# Altium footprint library LED_SMD.PcbLib: 82 footprints (part 4 of 6)
Each footprint in its own frame and in the unit in brackets; x right, y up, seen from the top. Pads: shape width x height; smd on the part's side, far side on the other; paste and mask are expansions set on the pad; w line width, h text height; cw(c..) or ccw(c..) is an arc to the next point about the centre after c.
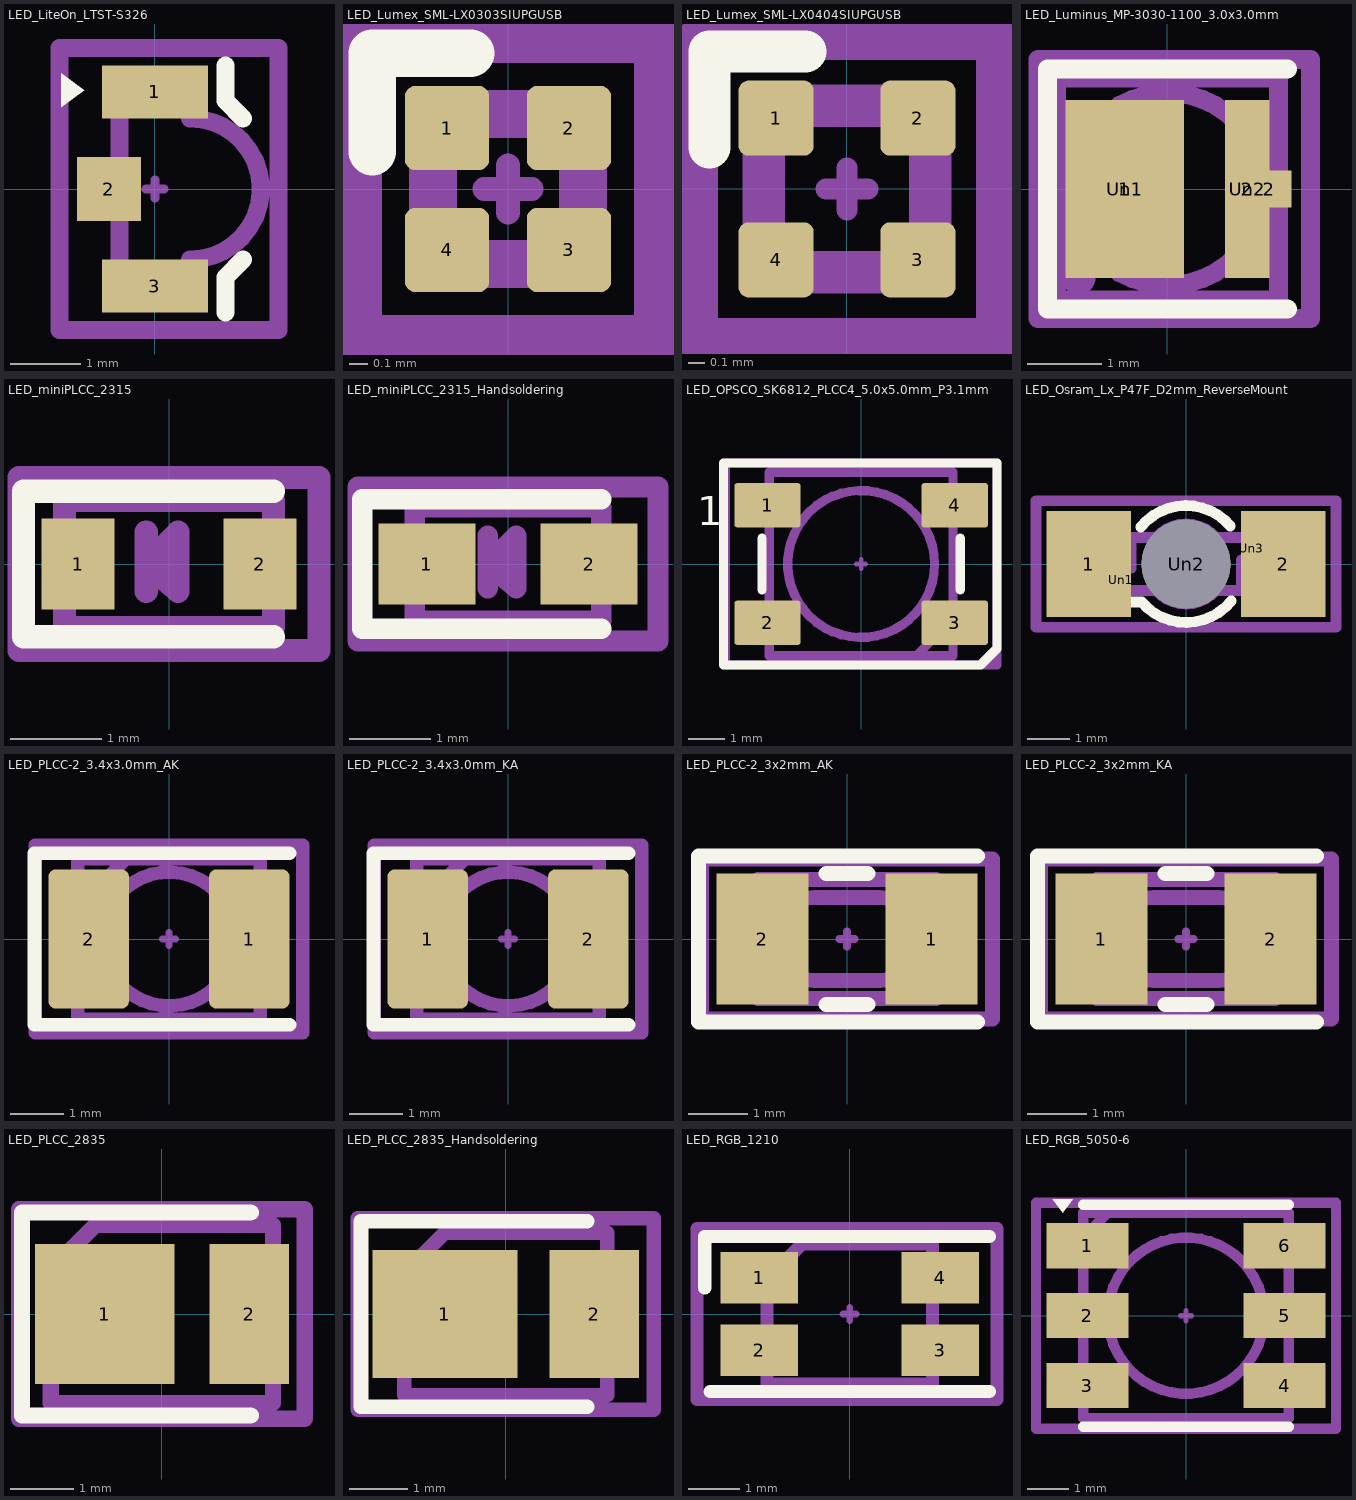
[diagram p3: the footprints below, top view; thin cyan lines are the x and y axes]

## LED_LiteOn_LTST-S326 [mm] "LED_LiteOn_LTST-S326"
pads (3):
  rect 1.5x0.75 smd: 1(0,1.375) 3(0,-1.375)
  rect 0.9x0.9 smd: 2(-0.65,0)
F.SilkS:
  region: -1,1.4 -1.33,1.16 -1.33,1.64
  lines w0.254: 1,-1.75 1,-1.25 1.25,-1 ; 1,1.75 1,1.25 1.25,1
Top Component Center:
  lines w0.127: -0.127,0 0.127,0 ; 0,-0.127 0,0.127
Top Assembly:
  lines w0.254: -0.5,-1.5 0.5,-1.5 0.5,-1 ccw(c0.5,0) 0.5,1 0.5,1.5 -0.5,1.5 -0.5,-1.5
Top Courtyard:
  lines w0.254: -1.35,-2 1.75,-2 1.75,2 -1.35,2 -1.35,-2
Top Designator:
  text ".Designator" at 0.226,-2.253 h1

## LED_Lumex_SML-LX0303SIUPGUSB [mm] "LED_Lumex_SML-LX0303SIUPGUSB"
pads (4):
  rrect25% 0.45x0.45 smd: 1(-0.325,0.325) 2(0.325,0.325) 3(0.325,-0.325) 4(-0.325,-0.325)
F.SilkS:
  lines w0.254: -0.725,0.2 -0.725,0.725 -0.2,0.725
Top Component Center:
  lines w0.127: -0.127,0 0.127,0 ; 0,-0.127 0,0.127
Top Assembly:
  lines w0.254: -0.4,-0.4 -0.4,0.2 -0.2,0.4 0.4,0.4 0.4,-0.4 -0.4,-0.4
Top Courtyard:
  lines w0.254: -0.8,-0.8 -0.8,0.8 0.8,0.8 0.8,-0.8 -0.8,-0.8
Top Designator:
  text ".Designator" at -1.127,-0.113 h0.5

## LED_Lumex_SML-LX0404SIUPGUSB [mm] "LED_Lumex_SML-LX0404SIUPGUSB"
pads (4):
  rrect25% 0.45x0.45 smd: 1(-0.425,0.425) 2(0.425,0.425) 3(0.425,-0.425) 4(-0.425,-0.425)
F.SilkS:
  lines w0.254: -0.825,0.25 -0.825,0.825 -0.25,0.825
Top Component Center:
  lines w0.127: -0.127,0 0.127,0 ; 0,-0.127 0,0.127
Top Assembly:
  lines w0.254: -0.5,-0.5 0.5,-0.5 0.5,0.5 -0.25,0.5 -0.5,0.25 -0.5,-0.5
Top Courtyard:
  lines w0.254: -0.9,-0.9 0.9,-0.9 0.9,0.9 -0.9,0.9 -0.9,-0.9
Top Designator:
  text ".Designator" at -1.127,-0.113 h0.5

## LED_Luminus_MP-3030-1100_3.0x3.0mm [mm] "LED_Luminus_MP-3030-1100_3.0x3.0mm"
pads (5):
  rect 1.6x2.4 smd: 1(-0.575,0)
  rect 0.6x2.4 smd: 2(1.075,0)
  rect 0.6x0.5 smd: 2(1.375,0)
  rect 1.3x1.9 on Top Paste: Un1(-0.575,0)
  rect 0.4x1.9 on Top Paste: Un2(1.075,0)
F.SilkS:
  lines w0.254: 1.62,-1.62 -1.62,-1.62 -1.62,1.62 1.62,1.62
Top Component Center:
  lines w0.127: -0.127,0 0.127,0 ; 0,-0.127 0,0.127
Top Assembly:
  circle w0.254: c0,0 r1.3
  circle w0.254: c-1.2,-1.2 r0.1
  lines w0.254: -1.5,-1.5 1.5,-1.5 1.5,1.5 -1.5,1.5 -1.5,-1.5
Top Courtyard:
  lines w0.254: -1.75,-1.75 1.93,-1.75 1.93,1.75 -1.75,1.75 -1.75,-1.75
Top Designator:
  text ".Designator" at -2.253,-0.226 h1

## LED_miniPLCC_2315 [mm] "LED_miniPLCC_2315"
pads (2):
  rect 0.8x1 smd: 1(-1,0) 2(1,0)
F.SilkS:
  lines w0.254: 1.15,-0.8 -1.6,-0.8 -1.6,0.8 1.15,0.8
Top Component Center:
  lines w0.127: -0.127,0 0.127,0 ; 0,-0.127 0,0.127
Top Assembly:
  lines w0.254: -0.25,-0.3 -0.25,0.35 ; -1.15,-0.7 -1.15,0.7 1.15,0.7 1.15,-0.7 -1.15,-0.7 ; -0.25,0 0.1,-0.3 0.1,0.35 -0.25,0
Top Courtyard:
  lines w0.254: -1.65,-0.95 -1.65,0.95 1.65,0.95 1.65,-0.95 -1.65,-0.95
Top Designator:
  text ".Designator" at -1.69,-0.17 h0.75

## LED_miniPLCC_2315_Handsoldering [mm] "LED_miniPLCC_2315_Handsoldering"
pads (2):
  rect 1.2x1 smd: 1(-1,0) 2(1,0)
F.SilkS:
  lines w0.254: 1.15,-0.8 -1.8,-0.8 -1.8,0.8 1.15,0.8
Top Component Center:
  lines w0.127: -0.127,0 0.127,0 ; 0,-0.127 0,0.127
Top Assembly:
  lines w0.254: -0.25,-0.3 -0.25,0.35 ; -1.15,-0.7 1.15,-0.7 1.15,0.7 -1.15,0.7 -1.15,-0.7 ; -0.25,0 0.1,0.35 0.1,-0.3 -0.25,0
Top Courtyard:
  lines w0.254: -1.85,-0.95 1.85,-0.95 1.85,0.95 -1.85,0.95 -1.85,-0.95
Top Designator:
  text ".Designator" at -1.69,-0.17 h0.75

## LED_OPSCO_SK6812_PLCC4_5.0x5.0mm_P3.1mm [mm] "LED_OPSCO_SK6812_PLCC4_5.0x5.0mm_P3.1mm"
pads (4):
  rrect10% 1.8x1.2 smd: 1(-2.55,1.6) 2(-2.55,-1.6) 3(2.55,-1.6) 4(2.55,1.6)
F.SilkS:
  lines w0.254: -2.7,-0.7 -2.7,0.7 ; 2.7,-0.7 2.7,0.7 ; -3.75,-2.75 -3.75,2.75 3.7,2.75 3.7,-2.3 3.25,-2.75 -3.75,-2.75
  text "1" at -4.47,1.05 h0.8
Top Component Center:
  lines w0.127: -0.127,0 0.127,0 ; 0,-0.127 0,0.127
Top Assembly:
  circle w0.254: c0,0 r2
  lines w0.254: 1.5,-2.5 2.5,-1.5 ; -2.5,-2.5 -2.5,2.5 2.5,2.5 2.5,-2.5 -2.5,-2.5
Top Courtyard:
  lines w0.254: -3.7,-2.75 -3.7,2.75 3.7,2.75 3.7,-2.75 -3.7,-2.75
Top Designator:
  text ".Designator" at -3.38,-0.339 h1.5

## LED_Osram_Lx_P47F_D2mm_ReverseMount [mm] "LED_Osram_Lx_P47F_D2mm_ReverseMount"
pads (5):
  rect 2x2.5 smd: 1(-2.3,0) 2(2.3,0)
  rect 0.5x0.7 on Top Solder: Un1(-1.55,-0.375) Un3(1.55,0.375)
  round 2.1 hole 2.1: Un2(0,0)
F.SilkS:
  lines w0.254: -2,-0.9 -1.05,-0.9 ccw(c0,0) 1.069,-0.878 ; -1.069,0.878 cw(c0,0) 1.05,0.9
Top Component Center:
  lines w0.127: -0.127,0 0.127,0 ; 0,-0.127 0,0.127
Top Assembly:
  lines w0.254: -0.715,0.625 -1.3,0.625 -1.3,-0.1 -1.5,-0.1 -1.7,-0.3 -1.7,-0.625 -0.715,-0.625 ccw(c0,0) 0.714,-0.626 ; -0.714,0.626 cw(c0,0) 0.715,0.625 1.705,0.625 1.705,0.095 1.315,0.095 1.315,-0.625 0.715,-0.625
Top Courtyard:
  lines w0.254: -3.55,-1.5 -3.55,1.5 3.55,1.5 3.55,-1.5 -3.55,-1.5
Top Designator:
  text ".Designator" at -2.253,-0.226 h1

## LED_PLCC-2_3.4x3.0mm_AK [mm] "LED_PLCC-2_3.4x3.0mm_AK"
pads (2):
  rrect17% 1.5x2.6 smd: 1(1.5,0) 2(-1.5,0)
F.SilkS:
  lines w0.254: 2.25,-1.6 -2.51,-1.6 -2.51,1.6 2.25,1.6
Top Component Center:
  lines w0.127: -0.127,0 0.127,0 ; 0,-0.127 0,0.127
Top Assembly:
  circle w0.254: c0,0 r1.25
  lines w0.254: -1.7,0.6 -0.8,1.5 ; -1.7,-1.5 1.7,-1.5 1.7,1.5 -1.7,1.5 -1.7,-1.5
Top Courtyard:
  lines w0.254: -2.5,-1.75 2.5,-1.75 2.5,1.75 -2.5,1.75 -2.5,-1.75
Top Designator:
  text ".Designator" at -2.253,-0.226 h1

## LED_PLCC-2_3.4x3.0mm_KA [mm] "LED_PLCC-2_3.4x3.0mm_KA"
pads (2):
  rrect17% 1.5x2.6 smd: 1(-1.5,0) 2(1.5,0)
F.SilkS:
  lines w0.254: 2.25,-1.6 -2.51,-1.6 -2.51,1.6 2.25,1.6
Top Component Center:
  lines w0.127: -0.127,0 0.127,0 ; 0,-0.127 0,0.127
Top Assembly:
  circle w0.254: c0,0 r1.25
  lines w0.254: -1.7,0.6 -0.8,1.5 ; -1.7,-1.5 1.7,-1.5 1.7,1.5 -1.7,1.5 -1.7,-1.5
Top Courtyard:
  lines w0.254: -2.5,-1.75 2.5,-1.75 2.5,1.75 -2.5,1.75 -2.5,-1.75
Top Designator:
  text ".Designator" at -3.432,-0.345 h1.52

## LED_PLCC-2_3x2mm_AK [mm] "LED_PLCC-2_3x2mm_AK"
pads (2):
  rect 1.55x2.2 smd: 1(1.425,0) 2(-1.425,0)
F.SilkS:
  lines w0.254: -0.35,-1.1 0.35,-1.1 ; -0.35,1.1 0.35,1.1 ; 2.2,-1.4 -2.5,-1.4 -2.5,1.4 2.2,1.4
Top Component Center:
  lines w0.127: -0.127,0 0.127,0 ; 0,-0.127 0,0.127
Top Assembly:
  lines w0.254: -1.5,0.4 -0.9,1 ; -1.5,-1 1.5,-1 1.5,1 -1.5,1 -1.5,-1 ; -0.55,-0.7 cw(c-0.55,0) -0.55,0.7 0.55,0.7 cw(c0.55,0) 0.55,-0.7 -0.55,-0.7
Top Courtyard:
  lines w0.254: -2.45,-1.35 2.45,-1.35 2.45,1.35 -2.45,1.35 -2.45,-1.35
Top Designator:
  text ".Designator" at -2.253,-0.226 h1

## LED_PLCC-2_3x2mm_KA [mm] "LED_PLCC-2_3x2mm_KA"
pads (2):
  rect 1.55x2.2 smd: 1(-1.425,0) 2(1.425,0)
F.SilkS:
  lines w0.254: -0.35,-1.1 0.35,-1.1 ; -0.35,1.1 0.35,1.1 ; 2.2,-1.4 -2.5,-1.4 -2.5,1.4 2.2,1.4
Top Component Center:
  lines w0.127: -0.127,0 0.127,0 ; 0,-0.127 0,0.127
Top Assembly:
  lines w0.254: -1.5,0.4 -0.9,1 ; -1.5,-1 -1.5,1 1.5,1 1.5,-1 -1.5,-1 ; -0.55,-0.7 cw(c-0.55,0) -0.55,0.7 0.55,0.7 cw(c0.55,0) 0.55,-0.7 -0.55,-0.7
Top Courtyard:
  lines w0.254: -2.45,-1.35 -2.45,1.35 2.45,1.35 2.45,-1.35 -2.45,-1.35
Top Designator:
  text ".Designator" at -2.253,-0.226 h1

## LED_PLCC_2835 [mm] "LED_PLCC_2835"
pads (2):
  rect 2.2x2.2 smd: 1(-0.9,0)
  rect 1.25x2.2 smd: 2(1.375,0)
F.SilkS:
  lines w0.254: 1.4,-1.6 -2.2,-1.6 -2.2,1.6 1.4,1.6
Top Component Center:
  lines w0.127: -0.127,0 0.127,0 ; 0,-0.127 0,0.127
Top Assembly:
  lines w0.254: -1.75,-1.4 1.75,-1.4 1.75,1.4 -1.05,1.4 -1.75,0.7 -1.75,-1.4
Top Courtyard:
  lines w0.254: -2.25,-1.65 2.25,-1.65 2.25,1.65 -2.25,1.65 -2.25,-1.65
Top Designator:
  text ".Designator" at -2.253,-0.226 h1

## LED_PLCC_2835_Handsoldering [mm] "LED_PLCC_2835_Handsoldering"
pads (2):
  rect 2.5x2.2 smd: 1(-1.05,0)
  rect 1.55x2.2 smd: 2(1.525,0)
F.SilkS:
  lines w0.254: 1.4,-1.6 -2.5,-1.6 -2.5,1.6 1.4,1.6
Top Component Center:
  lines w0.127: -0.127,0 0.127,0 ; 0,-0.127 0,0.127
Top Assembly:
  lines w0.254: -1.75,-1.4 1.75,-1.4 1.75,1.4 -1.05,1.4 -1.75,0.7 -1.75,-1.4
Top Courtyard:
  lines w0.254: -2.55,-1.65 2.55,-1.65 2.55,1.65 -2.55,1.65 -2.55,-1.65
Top Designator:
  text ".Designator" at -2.253,-0.226 h1

## LED_RGB_1210 [mm] "LED_RGB_1210"
pads (4):
  rect 1.5x1 smd: 1(-1.75,0.7) 2(-1.75,-0.7) 3(1.75,-0.7) 4(1.75,0.7)
F.SilkS:
  lines w0.254: -2.8,0.5 -2.8,1.5 2.7,1.5 ; -2.7,-1.5 2.7,-1.5
Top Component Center:
  lines w0.127: -0.127,0 0.127,0 ; 0,-0.127 0,0.127
Top Assembly:
  lines w0.254: -1.6,-1.35 -1.6,0.675 -0.925,1.35 1.6,1.35 1.6,-1.35 -1.6,-1.35
Top Courtyard:
  lines w0.254: -2.95,-1.65 -2.95,1.65 2.85,1.65 2.85,-1.65 -2.95,-1.65
Top Designator:
  text ".Designator" at -2.253,-0.226 h1
3D body "LED_RGB_1210.step": height 1.11, standoff 0, extent -1.6,-1.35 1.6,1.35
3D body "LED_RGB_1210.step": height 1.11, standoff 0, extent -1.6,-1.35 1.6,1.35

## LED_RGB_5050-6 [mm] "LED_RGB_5050-6"
pads (6):
  rect 2x1.1 smd: 1(-2.4,1.7) 2(-2.4,0) 3(-2.4,-1.7) 4(2.4,-1.7) 5(2.4,0) 6(2.4,1.7)
F.SilkS:
  region: -3,2.5 -3.24,2.83 -2.76,2.83
  lines w0.254: -2.5,-2.7 2.5,-2.7 ; -2.5,2.7 2.5,2.7
Top Component Center:
  lines w0.127: -0.127,0 0.127,0 ; 0,-0.127 0,0.127
Top Assembly:
  circle w0.254: c0,0 r1.9
  lines w0.254: -2.5,1.9 -1.9,2.5 ; -2.5,-2.5 -2.5,2.5 2.5,2.5 2.5,-2.5 -2.5,-2.5
Top Courtyard:
  lines w0.254: -3.65,-2.75 -3.65,2.75 3.65,2.75 3.65,-2.75 -3.65,-2.75
Top Designator:
  text ".Designator" at -3.432,-0.345 h1.52
3D body "LED_RGB_5050-6.step": height 1.6, standoff 0, extent -2.7,-2.5 2.7,2.5
3D body "LED_RGB_5050-6.step": height 1.6, standoff 0, extent -2.7,-2.5 2.7,2.5